# Altium schematic symbol library NVD5117PLT4G-VF01.SchLib: 1 symbol
Pins are listed as number, name and electrical type; pins without a type are passive.

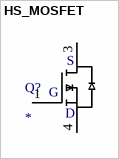
[diagram p0: symbol HS_MOSFET]

## HS_MOSFET
designator Q?
NVD5117PLT4G-VF01; Manufacturer_Name: ON Semiconductor; Manufacturer_Part_Number: NVF6P02T3G; Allied_Number: 70467580; Datasheet Link: http://www.onsemi.com/pub/Collateral/NTF6P02T3-D.PDF; Height: 1.75mm; Mouser Part Number: 863-NVF6P02T3G; Mouser Price/Stock: https://www.mouser.com/Search/Refine.aspx?Keyword=863-NVF6P02T3G; RS Part Number: 8051996P; RS Price/Stock: http://uk.rs-online.com/web/p/products/8051996P; Allied Price/Stock: http://www.alliedelec.com/on-semiconductor-nvf6p02t3g/70467580/
footprint DPAK_HS MOSFET
pins: 1 G, 3 S, 4 D_TAB
text: D